# Altium footprint library EMG_Service_C2.PcbLib: 4 footprints
Each footprint in its own frame and in the unit in brackets; x right, y up, seen from the top. Pads: shape width x height; smd on the part's side, far side on the other; paste and mask are expansions set on the pad; w line width, h text height; cw(c..) or ccw(c..) is an arc to the next point about the centre after c.
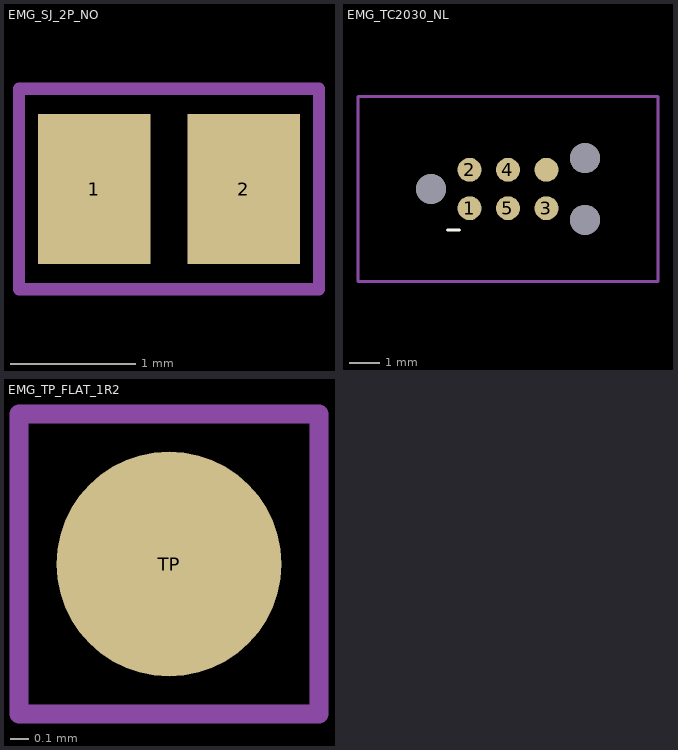
[diagram p0: the footprints below, top view; thin cyan lines are the x and y axes]

## EMG_SJ_2P_NO [mm] "Normally-open 2-pad solder jumper, 0.3 mm gap (no paste via rule)"
pads (2):
  rect 0.9x1.2 smd: 1(-1270.6,-1270) 2(-1269.4,-1270)
Mechanical 15:
  lines w0.1: -1271.2,-1270.8 -1271.2,-1269.2 -1268.8,-1269.2 -1268.8,-1270.8 -1271.2,-1270.8

## EMG_TC2030_NL [mil] "Tag-Connect TC2030-NL plug-of-nails footprint (DNL, no paste via rule); J_SWD pins at TC2030-CTX positions"
pads (9):
  round 30.98 smd: 1(-50050,-50025) 2(-50050,-49975) 3(-49950,-50025) 4(-50000,-49975) 5(-50000,-50025) ""(-49950,-49975)
  round 39.02 hole 39.02 unplated: ""(-50100,-50000) ""(-49900,-50040) ""(-49900,-49960)
Top Overlay:
  lines w3.94: -50078.74,-50053.15 -50062.99,-50053.15
Mechanical 15:
  lines w3.94: -50195,-50120 -50195,-49880 -49805,-49880 -49805,-50120 -50195,-50120

## EMG_TP_FLAT_1R2 [mm] "Flat 1.2 mm probe pad (no paste via rule)"
pads (1):
  round 1.2 smd: TP(-1270,-1270)
Mechanical 15:
  lines w0.1: -1270.8,-1270.8 -1270.8,-1269.2 -1269.2,-1269.2 -1269.2,-1270.8 -1270.8,-1270.8

## PCBComponent_1 [mil]